# Altium integrated library AMS1117-1.8.IntLib: 1 symbol
Pins are listed as number, name and electrical type; pins without a type are passive.

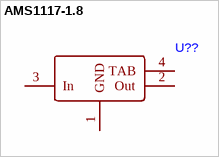
[diagram p0: symbol AMS1117-1.8]

## AMS1117-1.8
designator U??
footprint SOT-223-4_L6.5-W3.5-P2.30-LS7.0-BR
pins: 1 GND, 2 Out, 3 In, 4 TAB